# Altium schematic symbol library SCH - DRIVE - GATE - TI UCC27200AD.Schlib: 1 symbol
Pins are listed as number, name and electrical type; pins without a type are passive.

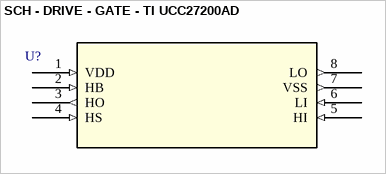
[diagram p0: symbol SCH - DRIVE - GATE - TI UCC27200AD]

## SCH - DRIVE - GATE - TI UCC27200AD
designator U?
footprint D0008A_N
pins: 1 VDD (in), 2 HB (in), 3 HO (out), 4 HS (in), 5 HI (in), 6 LI (in), 7 VSS (out), 8 LO (out)